# Altium integrated library sprinkler_photon_0v1.IntLib: 19 symbols
Pins are listed as number, name and electrical type; pins without a type are passive.

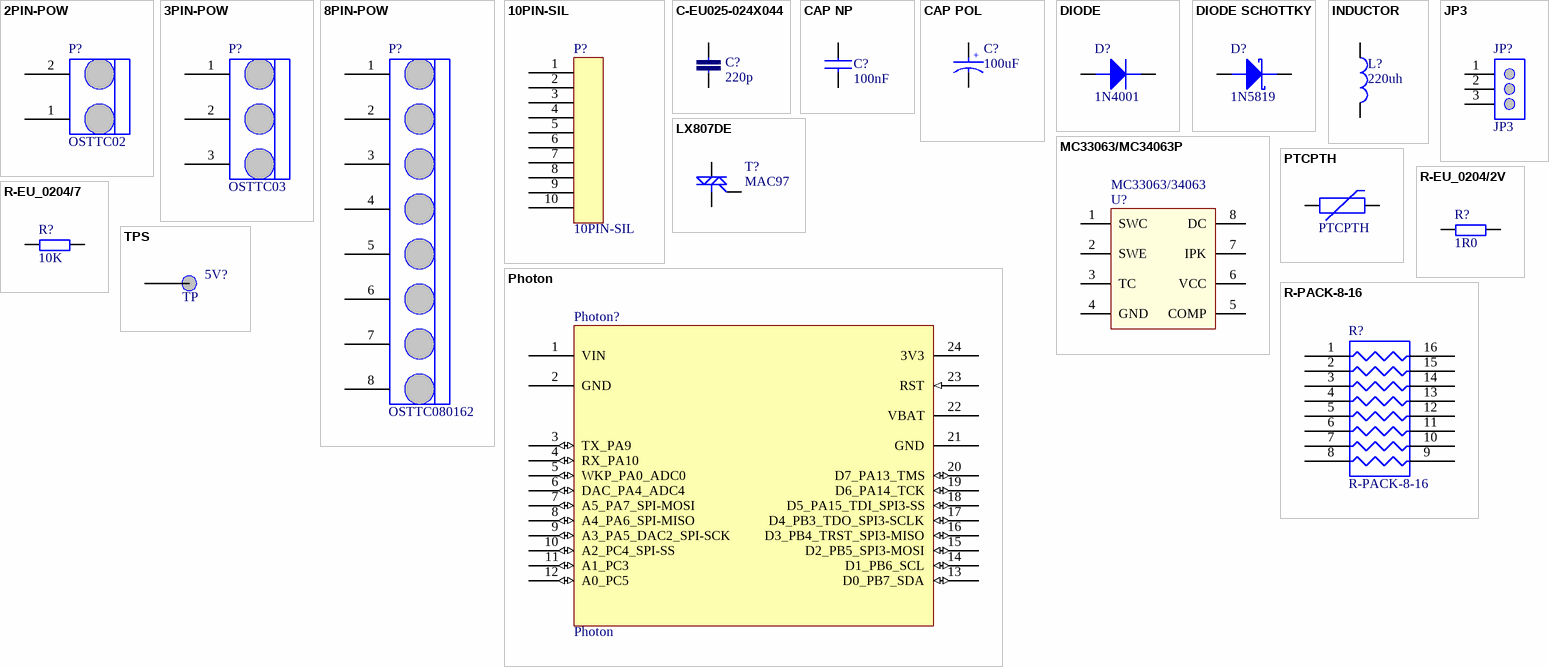
[diagram p0: symbols 2PIN-POW to TPS]

## 2PIN-POW
designator P?, comment OSTTC02
TERMINAL BLOCK 5MM VERT 2POS PCB; Manufacturer: Onshore; MANUFACTURER PART#: OSTTC020162; PROTOTYPE PRICE: 0.36; VOLUME PRICE: 0.18; DISTRIBUTOR: Digikey; DISTRIBUTOR PART#: ED2600-ND
footprint OSTTC02 (2 pin  TERMIBLOK Header  5mm pitch)
pins: 1, 2

## 3PIN-POW
designator P?, comment OSTTC03
TERMINAL BLOCK 5MM VERT 3POS PCB; Manufacturer: Onshore; MANUFACTURER PART#: OSTTC030162; PROTOTYPE PRICE: 0.68; VOLUME PRICE: 0.43; ComponentLink1URL: http://www.te.com/commerce/DocumentDelivery/DDEController?Action=srchrtrv&DocNm=796644&DocType=Customer+Drawing&DocLang=English; DISTRIBUTOR: Digikey; DISTRIBUTOR PART#: ED2601-ND
footprint OSTTC03 (3 pin  TERMIBLOK Header  5mm pitch)
pins: 1, 2, 3

## 8PIN-POW
designator P?, comment OSTTC080162
TERMINAL BLOCK 5MM VERT 8POS PCB; Manufacturer: OnShore; PROTOTYPE PRICE: 1.05; VOLUME PRICE: 0.659; COMPONENTLINK1URL: http://www.on-shore.com/sites/default/files/manuals/osttcxx0162.pdf; DISTRIBUTOR: Digikey; DISTRIBUTOR PART#: ED2606-ND; MANUFACTURER PART#: OSTTC080162
footprint OSTTC08 (3 pin  TERMIBLOK Header  5mm pitch)
pins: 1, 2, 3, 4, 5, 6, 7, 8

## 10PIN-SIL
designator P?
Manufacturer: Harwin; MANUFACTURER PART#: M20-9991046; VOLUME PRICE: .17; PROTOTYPE PRICE: .35; COMPONENTLINK1URL: https://cdn.harwin.com/pdfs/60page146.pdf; DISTRIBUTOR: Digikey; DISTRIBUTOR PART#: 952-1843-ND
footprint SIP-10
pins: 1, 2, 3, 4, 5, 6, 7, 8, 9, 10

## C-EU025-024X044
designator C?, comment 220p
CAP CER 220PF 100V 5% RADIAL; MANUFACTURER: AVX; MANUFACTURER PART#: SR151A221JAR; PROTOTYPE PRICE: 0.19; VOLUME PRICE: 0.068; COMPONENTLINK1URL: http://www.avx.com/docs/catalogs/skycap.pdf; DISTRIBUTOR: Digikey; DISTRIBUTOR PART#: 478-4847-ND
footprint RADCAP-0.1
pins: 1, 2

## CAP NP
designator C?, comment 100nF
CAP CER 0.1UF 25V 10% RADIAL; MANUFACTURER: TDK; MANUFACTURER PART#: FK18X7R1E104K; PROTOTYPE PRICE: 0.20; VOLUME PRICE: 0.07; COMPONENTLINK1DESCRIPTION: DATASHEET; DISTRIBUTOR: Digikey; DISTRIBUTOR PART#: 445-8421-ND
footprint RAD-0.1
footprint 0603
footprint 0805
footprint 1206
footprint 1210
pins: 1, 2

## CAP POL
designator C?, comment 100uF
CAP ALUM 100UF 50V 20% RADIAL; MANUFACTURER: Nichicon; MANUFACTURER PART#: UVR1H101MPD; PROTOTYPE PRICE: 0.21; VOLUME PRICE: 0.073; ComponentLink1URL: http://www.nichicon.co.jp/english/products/pdfs/e-vr.pdf; COMPONENTLINK1DESCRIPTION: DATASHEET; DISTRIBUTOR: Digikey; DISTRIBUTOR PART#: 493-1107-ND
footprint RB-3.5MM-8MM (wide case)
pins: 1, 2
text: +

## DIODE
designator D?, comment 1N4001
RECTIFIER 50V 1A DO-41; MANUFACTURER: Diodes; MANUFACTURER PART#: 1N4001-T; PROTOTYPE PRICE: 0.13; VOLUME PRICE: 0.028; DISTRIBUTOR: DIGIKEY; DISTRIBUTOR PART#: 1N4001DICT-ND; COMPONENTLINK1DESCRIPTION: DATASHEET
footprint AXIAL-0.4 - DIODE
pins: 1 A, 2 K

## DIODE SCHOTTKY
designator D?, comment 1N5819
DIODE SCHOTTKY 40V 1A DO-41; MANUFACTURER: Diodes; MANUFACTURER PART#: 1N5819-T; PROTOTYPE PRICE: 0.31; VOLUME PRICE: 0.11; DISTRIBUTOR: DIGIKEY; DISTRIBUTOR PART#: 1N5819DICT-ND; COMPONENTLINK1DESCRIPTION: DATASHEET
footprint AXIAL-0.4 - DIODE
footprint SOD-123 (SOD-123; 2 Leads; Body 2.7 x 1.6 mm, (LxW))
pins: 1 A, 2 K

## INDUCTOR
designator L?, comment 220uh
Inductor; MANUFACTURER: Abracon; MANUFACTURER PART#: AIUR-02H-221K; PROTOTYPE PRICE: 0.35; VOLUME PRICE: 0.22; COMPONENTLINK1DESCRIPTION: DATASHEET; DISTRIBUTOR: Digikey; DISTRIBUTOR PART#: AIUR-02H-221K-ND
footprint RB-5MM - 9MMDIA (Radial Inductor)
pins: 1, 2
1 alternate drawing of the same symbol

## JP3
designator JP?
3 PIN JUMPER; Manufacturer: Harwin; MANUFACTURER PART#: M20-9990346; VOLUME PRICE: .08; PROTOTYPE PRICE: .14; DISTRIBUTOR PART#: 952-2264-ND
footprint SIP-3
footprint 2MMHDR1x3
pins: 1, 2, 3

## LX807DE
designator T?, comment MAC97
THYRISTOR TRIAC .6A 600V TO92; MANUFACTURER: ON; MANUFACTURER PART#: MAC97A8G; PROTOTYPE PRICE: 0.308; VOLUME PRICE: 0.108; DISTRIBUTOR: Digikey; DISTRIBUTOR PART#: MAC97A8GOS-ND
footprint TO-92
pins: 1 M1, 2 G, 3 M2

## MC33063/MC34063P
designator U?, comment MC33063/34063
MANUFACTURER: TI; MANUFACTURER PART#: MC33063AP; PROTOTYPE PRICE: 0.45; VOLUME PRICE: 0.26; DISTRIBUTOR: Digikey; DISTRIBUTOR PART#: 296-17764-5-ND
footprint DIP8 (DIP, 8-Leads, Row Spacing 7.62mm, Pitch 2.54mm, Body 9.91x6.73mm)
pins: 1 SWC, 2 SWE, 3 TC, 4 GND, 5 COMP, 6 VCC, 7 IPK, 8 DC

## Photon
designator Photon?
MANUFACTURER: Particle.io; PROTOTYPE PRICE: 19.95; VOLUME PRICE: 17.95; DISTRIBUTOR: Sparkfun; DISTRIBUTOR PART#: WRL-13764; MANUFACTURER PART#: Photon
footprint PHOTON (Photon Body)
pins: 1 VIN (power), 2 GND (power), 3 TX_PA9 (io), 4 RX_PA10 (io), 5 WKP_PA0_ADC0 (io), 6 DAC_PA4_ADC4 (io), 7 A5_PA7_SPI-MOSI (io), 8 A4_PA6_SPI-MISO (io), 9 A3_PA5_DAC2_SPI-SCK (io), 10 A2_PC4_SPI-SS (io), 11 A1_PC3 (io), 12 A0_PC5 (io), 13 D0_PB7_SDA (io), 14 D1_PB6_SCL (io), 15 D2_PB5_SPI3-MOSI (io), 16 D3_PB4_TRST_SPI3-MISO (io), 17 D4_PB3_TDO_SPI3-SCLK (io), 18 D5_PA15_TDI_SPI3-SS (io), 19 D6_PA14_TCK (io), 20 D7_PA13_TMS (io), 21 GND (power), 22 VBAT (power), 23 RST (in), 24 3V3 (power)

## PTCPTH
designator PTC?
FUSE PTC RESETTABLE .75A HOLD; MANUFACTURER: Bournes; MANUFACTURER PART#: MF-R075; PROTOTYPE PRICE: 0.25; VOLUME PRICE: 0.15; COMPONENTLINK1URL: http://www.bourns.com/data/global/pdfs/mfr.pdf; DISTRIBUTOR: Digikey; DISTRIBUTOR PART#: MF-R075-ND
footprint PTC
pins: 1, 2

## R-EU_0204/2V
designator R?, comment 1R0
MANUFACTURER: Stackpole; MANUFACTURER PART#: CFM12JT1R00; PROTOTYPE PRICE: 0.078; VOLUME PRICE: 0.01; DISTRIBUTOR: Digikey; DISTRIBUTOR PART#: S1HCT-ND
footprint AXIAL-0.5 (Axial Device, Thru-Hole; 2 Leads; 0.5 in Pin Spacing)
pins: 1, 2

## R-EU_0204/7
designator R?, comment 10K
RES MF 1/4W 10K OHM 1% AXIAL; MANUFACTURER: Stackpole; MANUFACTURER PART#: RNF14FTD10K0; PROTOTYPE PRICE: 0.10; VOLUME PRICE: 0.016; DISTRIBUTOR PART#: RNF14FTD10K0CT-ND
footprint 0204/7 (RESISTOR)
footprint AXIAL_RES_0.3
footprint AXIAL-0.4
pins: 1, 2

## R-PACK-8-16
designator R?
RES ARRAY 330 OHM 8 RES 16-DIP; Manufacturer: Bournes; MANUFACTURER PART#: 4116R-1-331LF; PROTOTYPE PRICE: .52; VOLUME PRICE: .26; DISTRIBUTOR: Digikey; DISTRIBUTOR PART#: 4116R-1-331LF-ND
footprint EXB2HV
footprint DIP-16 (DIP; 16 Leads; Row Spacing 7.62 mm; Pitch 2.54 mm)
pins: 1 R1, 2 R2, 3 R3, 4 R4, 5 R5, 6 R6, 7 R7, 8 R8, 9 R8, 10 R7, 11 R6, 12 R5, 13 R4, 14 R3, 15 R2, 16 R1

## TPS
designator 5V?, comment TP
Test Point; COMPONENTLINK1DESCRIPTION: DATASHEET; DISTRIBUTOR: DIGIKEY
footprint TPS
footprint TPSS
footprint TPSM
footprint TPSQ
footprint SIP-1
footprint QUICKFIT-1285 (quickfit connector)
pins: 1
1 alternate drawing of the same symbol